# Altium footprint library CompAct.PcbLib: 5 footprints
Each footprint in its own frame and in the unit in brackets; x right, y up, seen from the top. Pads: shape width x height; smd on the part's side, far side on the other; paste and mask are expansions set on the pad; w line width, h text height; cw(c..) or ccw(c..) is an arc to the next point about the centre after c.
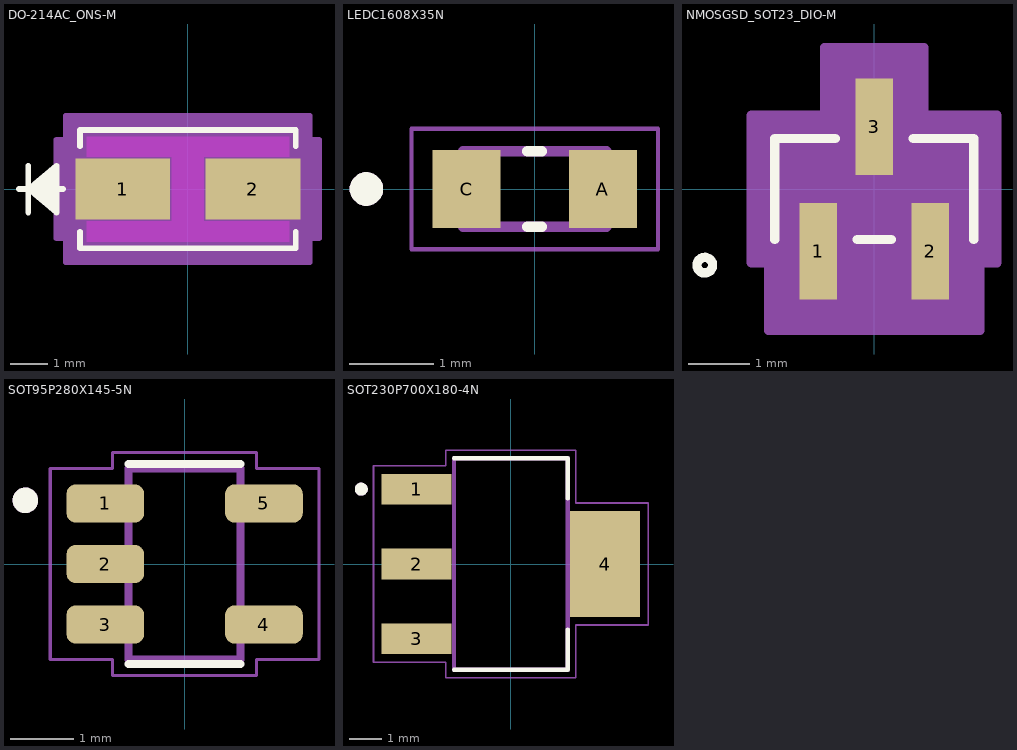
[diagram p0: the footprints below, top view; thin cyan lines are the x and y axes]

## DO-214AC_ONS-M [mil]
pads (2):
  rect 101x65 smd paste+0 mask+0: 1(-69.5,0) 2(69.5,0)
Top Layer keep-out:
  region: -108,-56 -108,-34.5 108,-34.5 108,-56
  region: -108,34.5 -108,56 108,56 108,34.5
  region: -17,-34.5 -17,34.5 17,34.5 17,-34.5
Top Overlay:
  lines w6: -180,0 -133.1,0 ; -170,-25 -170,25 ; -140,-20 -170,0 ; -140,-15 -170,0 ; -140,-10 -170,0 ; -140,-5 -170,0 ; -140,5 -170,0 ; -140,10 -170,0 ; -140,15 -170,0 ; -140,20 -170,0 ; -115,-45.6 -115,-63 115,-63 115,-45.6 ; -115,45.6 -115,63 115,63 115,45.6 ; -170,0 -140,-25 -140,25 -170,0
Keep-Out Layer:
  region: -17,-34.5 -17,34.5 17,34.5 17,-34.5
Mechanical 13:
  lines w1: -180,0 -130,0 ; -170,-25 -170,25 ; -140,-20 -170,0 ; -140,-15 -170,0 ; -140,-10 -170,0 ; -140,-5 -170,0 ; -140,5 -170,0 ; -140,10 -170,0 ; -140,15 -170,0 ; -140,20 -170,0 ; -170,0 -140,-25 -140,25 -170,0 ; -110,-58 -110,58 110,58 110,-58 -110,-58
Mechanical 15:
  region: -130,-52.5 -140,-52.5 -140,52.5 -130,52.5 -130,78 130,78 130,52.5 140,52.5 140,-52.5 130,-52.5 130,-78 -130,-78
  lines w6: -140,-52.5 -130,-52.5 -130,-78 130,-78 130,-52.5 140,-52.5 140,52.5 130,52.5 130,78 -130,78 -130,52.5 -140,52.5 -140,-52.5
3D body "DO-214AC_ONS.step": height 107.99, standoff 0, extent -110,-57.99 110,57.99

## LEDC1608X35N [mm]
pads (2):
  rect 0.81x0.93 smd: A(0.81,0) C(-0.81,0)
Top Overlay:
  circle w0.2: c-2,0 r0.1
  lines w0.127: -0.085,-0.45 0.085,-0.45 ; -0.085,0.45 0.085,0.45
Mechanical 13:
  circle w0.2: c-2,0 r0.1
  lines w0.127: -0.85,-0.45 0.85,-0.45 0.85,0.45 -0.85,0.45 -0.85,-0.45
Mechanical 15:
  lines w0.05: -1.465,-0.715 1.465,-0.715 1.465,0.715 -1.465,0.715 -1.465,-0.715
3D body "step_temp.STEP": height 0.8, standoff 0, extent -0.8,-0.4 0.8,0.4

## NMOSGSD_SOT23_DIO-M [mil]
pads (3):
  rect 24x62 smd paste+0 mask+0: 1(-36.02,-40) 2(36.02,-40) 3(0,40)
Top Overlay:
  circle w6: c-109,-49 r5
  lines w6: -64,-32.5 -64,32.5 -25.1,32.5 ; -10.92,-32.5 10.92,-32.5 ; 25.1,32.5 64,32.5 64,-32.5
Mechanical 13:
  circle w0: c-49,-17.5 r5
  lines w1: -59,-27.5 -59,27.5 59,27.5 59,-27.5 -59,-27.5 ; -46.02,-49 -26.02,-49 -26.02,-27.5 -46.02,-27.5 -46.02,-49 ; -10,27.5 -10,49 10,49 10,27.5 -10,27.5 ; 26.02,-49 46.02,-49 46.02,-27.5 26.02,-27.5 26.02,-49
Mechanical 15:
  region: 59,-27.5 -59,-27.5 -59,27.5 59,27.5
  region: -79,-47.5 -79,47.5 -32,47.5 -32,91 32,91 32,47.5 79,47.5 79,-47.5 68.02,-47.5 68.02,-91 -68.02,-91 -68.02,-47.5
  lines w6: -79,-47.5 -68.02,-47.5 -68.02,-91 68.02,-91 68.02,-47.5 79,-47.5 79,47.5 32,47.5 32,91 -32,91 -32,47.5 -79,47.5 -79,-47.5
3D body "NMOSGSD_SOT23_DIO.step": height 43.11, standoff 0, extent -59.02,-49.02 59.02,49.02

## SOT95P280X145-5N [mm]
pads (5):
  rrect50% 1.22x0.6 smd: 1(-1.245,0.95) 2(-1.245,0) 3(-1.245,-0.95) 4(1.245,-0.95) 5(1.245,0.95)
Top Overlay:
  circle w0.2: c-2.5,1 r0.1
  lines w0.127: -0.88,-1.57 0.88,-1.57 ; -0.88,1.57 0.88,1.57
Mechanical 13:
  circle w0.2: c-2.5,1 r0.1
  lines w0.127: -0.88,-1.5 -0.88,1.5 0.88,1.5 0.88,-1.5 -0.88,-1.5
Mechanical 15:
  lines w0.05: -2.11,-1.5 -1.13,-1.5 -1.13,-1.75 1.13,-1.75 1.13,-1.5 2.11,-1.5 2.11,1.5 1.13,1.5 1.13,1.75 -1.13,1.75 -1.13,1.5 -2.11,1.5 -2.11,-1.5
3D body "step_temp.STEP": height 1.45, standoff 0, extent -1.35,-1.45 1.35,1.45

## SOT230P700X180-4N [mm]
pads (4):
  rect 2.15x0.95 smd paste+0 mask+0.102: 1(-2.9,2.3) 2(-2.9,0) 3(-2.9,-2.3)
  rect 2.15x3.25 smd paste+0 mask+0.102: 4(2.9,0)
Top Overlay:
  circle w0.2: c-4.6,2.3 r0.1
  lines w0.127: -1.75,-3.25 1.75,-3.25 1.75,-2.01 ; -1.75,3.25 1.75,3.25 1.75,2.01
Mechanical 13:
  circle w0.2: c-4.6,2.3 r0.1
  lines w0.127: -1.75,-3.25 1.75,-3.25 1.75,3.25 -1.75,3.25 -1.75,-3.25
Mechanical 15:
  lines w0.05: -4.225,-3.025 -2,-3.025 -2,-3.5 2,-3.5 2,-1.875 4.225,-1.875 4.225,1.875 2,1.875 2,3.5 -2,3.5 -2,3.025 -4.225,3.025 -4.225,-3.025
3D body "step_temp.STEP": height 1.8, standoff 0, extent -3.499,-3.25 3.499,3.25